# Altium schematic symbol library Sheye-Key.SchLib: 8 symbols
Pins are listed as number, name and electrical type; pins without a type are passive.

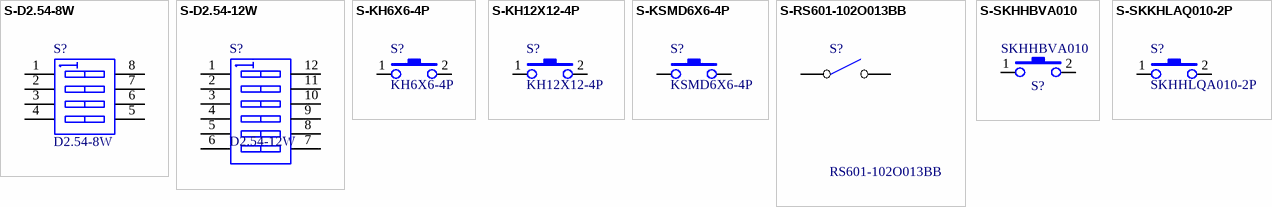
[diagram p0: symbols S-D2.54-8W to S-SKKHLAQ010-2P]

## S-D2.54-8W
designator S?, comment D2.54-8W
拨码开关; 规格型号: 直插 2.54间距 宽体 8P; 货品编码: 382002; 备注: *; 生产商: *; 供应商: *
footprint D2.54-8W (DIP8W)
pins: 1 A1, 2 A2, 3 A3, 4 A4, 5 B4, 6 B3, 7 B2, 8 B1

## S-D2.54-12W
designator S?, comment D2.54-12W
拨码开关; 规格型号: 直插 2.54间距 宽体 12P; 货品编码: 样品无编码; 备注: *; 生产商: *; 供应商: *
footprint D2.54-12W (DIP12W)
pins: 1 A1, 2 A2, 3 A3, 4 A4, 5 B4, 6 B3, 7 B2, 8 B1, 9, 10, 11, 12

## S-KH6X6-4P
designator S?, comment KH6X6-4P
轻触按键; 规格型号: 6X6 直插式按键; 货品编码: 232012; 备注: *; 生产商: *; 供应商: *
footprint KH6X6-4P (DIP4-HL/.25)
pins: 1, 2

## S-KH12X12-4P
designator S?, comment KH12X12-4P
轻触按键; 规格型号: 12X12 直插式按键 带按键帽; 货品编码: 382003; 备注: *; 生产商: *; 供应商: *
footprint KH12X12-4P (DIP4-HL)
pins: 1, 2

## S-KSMD6X6-4P
designator S?, comment KSMD6X6-4P
轻触按键; 货品编码: 232013; 规格型号: 6x6 SMD贴片按键; 备注: *; 供应商: *; 生产商: *
footprint K_SMD (6mmX6mm)
pins: 1, 2

## S-RS601-102O013BB
designator S?, comment RS601-102O013BB
船形开关; 生产商: LECI; 货品编码: 225011; 规格型号: RS601-102O013BB; 备注: *; 供应商: *
footprint RS601-102O013BB
pins: 1, 2

## S-SKHHBVA010
designator S?, comment SKHHBVA010
轻触按键; 生产商: 阿尔卑斯; 规格型号: S-SKHHBVA010 Tact Switch; 货品编码: 样品无编码; 备注: *; 供应商: *
footprint S-SKHHBVA010
pins: 1, 2

## S-SKKHLAQ010-2P
designator S?, comment SKHHLQA010-2P
轻触按键; 生产商: 阿尔卑斯; 货品编码: 样品无编码; 备注: *; 供应商: *
footprint S-SKHHLQA010 (Footprint not found)
footprint S-SKHHLQA010
pins: 1, 2